# EAGLE library part HCPL_7840 (library mylib)
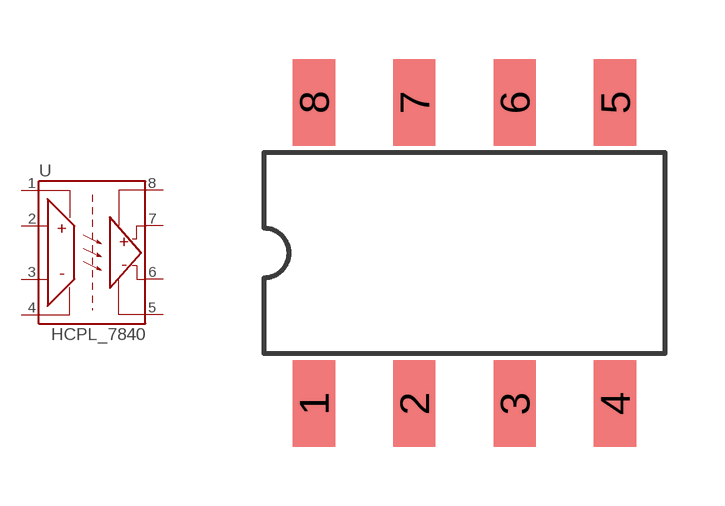
[diagram p11: symbol with the pads of DIL8-SMD; footprint DIL8-SMD]

Designator prefix -

## HCPL_7840  [DIL8-SMD]
1  VDD1
2  VIN+
3  VIN-
4  GND1
5  GND2
6  VOUT-
7  VOUT+
8  VDD2

## Footprint DIL8-SMD (pad centres in mm)
smd 1.067 x 2.184: 1 -3.81,-3.81; 2 -1.27,-3.81; 3 1.27,-3.81; 4 3.81,-3.81; 5 3.81,3.81; 6 1.27,3.81; 7 -1.27,3.81; 8 -3.81,3.81